# Altium footprint library 1500uF_100V.PcbLib: 1 footprints
Each footprint in its own frame and in the unit in brackets; x right, y up, seen from the top. Pads: shape width x height; smd on the part's side, far side on the other; paste and mask are expansions set on the pad; w line width, h text height; cw(c..) or ccw(c..) is an arc to the next point about the centre after c.
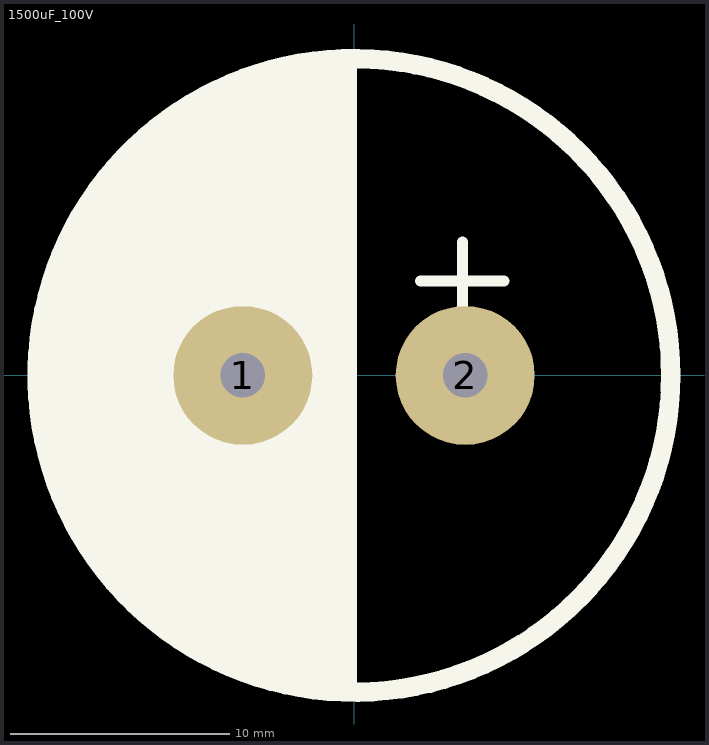
[diagram p0: the footprint, top view; thin cyan lines are the x and y axes]

## 1500uF_100V [mil]
pads (2):
  round 250 hole 80: 1(-200,0) 2(200,0)
Top Overlay:
  circle w35: c0,0 r570
  rectangle: -420,-395 -380,-345
  rectangle: -445,-365 -360,-325
  rectangle: -355,-460 -300,-430
  rectangle: -380,-435 -300,-405
  rectangle: -310,-495 -235,-455
  rectangle: -230,-530 -145,-450
  rectangle: -180,-545 -95,-400
  rectangle: -255,-515 -75,-270
  rectangle: -430,-365 -315,-230
  rectangle: -395,-410 -260,-250
  rectangle: -325,-465 -125,-310
  rectangle: -145,-555 -100,-270
  rectangle: -130,-565 0,-320
  rectangle: -420,300 -275,395
  rectangle: -460,-340 0,360
  rectangle: -440,-220 -435,-155
  rectangle: -515,-50 -495,-45
  rectangle: -560,-165 -420,95
  rectangle: -445,80 -440,95
  rectangle: -520,45 -420,160
  rectangle: -285,435 -225,490
  rectangle: -60,315 0,355
  rectangle: -355,285 0,455
  rectangle: -65,425 0,495
  rectangle: -255,425 0,515
  rectangle: -215,495 0,535
  rectangle: -150,515 0,555
  rectangle: -100,535 0,565
  rectangle: -275,465 -230,500
  rectangle: -325,430 -270,475
  rectangle: -295,465 -275,485
  rectangle: -375,365 -320,430
  rectangle: -395,355 -340,415
  rectangle: -435,330 -390,370
  rectangle: -480,105 -440,315
  rectangle: -505,60 -430,280
  rectangle: -525,5 -460,235
  rectangle: -545,-30 -455,185
  rectangle: -555,-65 -440,140
  rectangle: -545,-205 -430,-115
  rectangle: -525,-250 -435,-185
  rectangle: -475,-325 -455,-215
  rectangle: -505,-290 -455,-230
  lines w10: 0,-565 0,570 0,0 ; 195,172.5 197.5,170 270,170
  lines w20: -290,180 -125,180 ; 120,170 270,170 ; 195,110 195,172.5 195,240
Bottom Overlay:
  circle w35: c0,5 r570
3D body "HITANO 1500uF 100V EHU 105C (N).STEP": height 1264.3, standoff -239.63, extent -594.49,-594.49 590.55,590.55